# EAGLE library part ADP7182ACPZ (library EIT_Recorder)
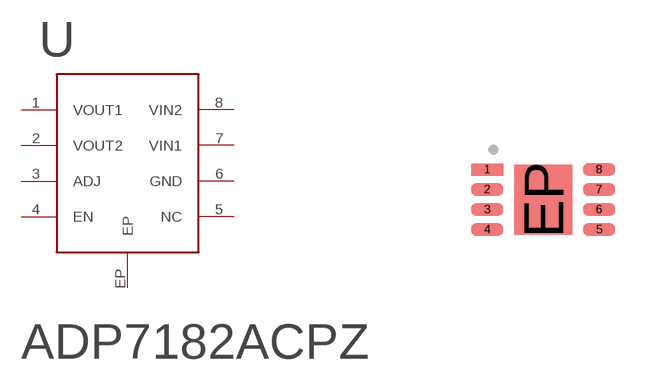
[diagram p3: symbol with the pads of LFCSP8_CUSTOM; footprint LFCSP8_CUSTOM]

Designator prefix U

## ADP7182ACPZ  [LFCSP8_CUSTOM]
1  VOUT1  pwr
2  VOUT2  pwr
3  ADJ  in
4  EN  in
5  NC  nc
6  GND  pwr
7  VIN1  pwr
8  VIN2  pwr
EP  EP  pwr

## Footprint LFCSP8_CUSTOM (pad centres in mm)
smd 0.8 x 0.3: 1 -1.11,1.58; 2 -1.11,1.08; 3 -1.11,0.58; 4 -1.11,0.08; 5 1.69,0.08; 6 1.69,0.58; 7 1.69,1.08; 8 1.69,1.58
smd 1.45 x 1.75: EP 0.29,0.83